# EAGLE library part ERM8-013-01-D-RA (library con-samtec-er8)
ERM8 Series - Male Right Angle Edge Mount
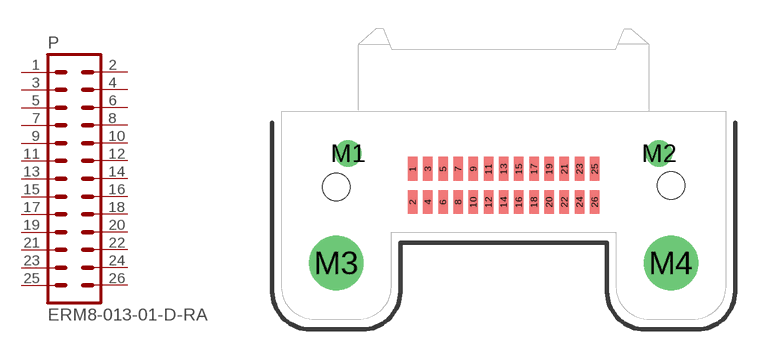
[diagram p28: symbol with the pads of ERM8-013-01-D-RA; footprint ERM8-013-01-D-RA]

Designator prefix P

## ERM8-013-01-D-RA  [ERM8-013-01-D-RA]
1  1  pas
2  2  pas
3  3  pas
4  4  pas
5  5  pas
6  6  pas
7  7  pas
8  8  pas
9  9  pas
10  10  pas
11  11  pas
12  12  pas
13  13  pas
14  14  pas
15  15  pas
16  16  pas
17  17  pas
18  18  pas
19  19  pas
20  20  pas
21  21  pas
22  22  pas
23  23  pas
24  24  pas
25  25  pas
26  26  pas

## Footprint ERM8-013-01-D-RA (pad centres in mm)
0.8mm Edge Rate Terminal Assembly MALE, Right Angle Double Row, 13 Position
smd 0.5 x 1.25: 1 -4.8,0.875; 2 -4.8,-0.875; 3 -4,0.875; 4 -4,-0.875; 5 -3.2,0.875; 6 -3.2,-0.875; 7 -2.4,0.875; 8 -2.4,-0.875; 9 -1.6,0.875; 10 -1.6,-0.875; 11 -0.8,0.875; 12 -0.8,-0.875; 13 0,0.875; 14 0,-0.875; 15 0.8,0.875; 16 0.8,-0.875; 17 1.6,0.875; 18 1.6,-0.875; 19 2.4,0.875; 20 2.4,-0.875; 21 3.2,0.875; 22 3.2,-0.875; 23 4,0.875; 24 4,-0.875; 25 4.8,0.875; 26 4.8,-0.875
drill 0.7 pad 1.4: M1 -8.2,1.69; M2 8.2,1.69
drill 1.91 pad 2.5: M3 -8.825,-4.09; M4 8.825,-4.09
hole 1.45 at -8.825,-0.09
hole 1.45 at 8.825,0